# Altium schematic symbol library switch.SchLib: 4 symbols
Pins are listed as number, name and electrical type; pins without a type are passive.

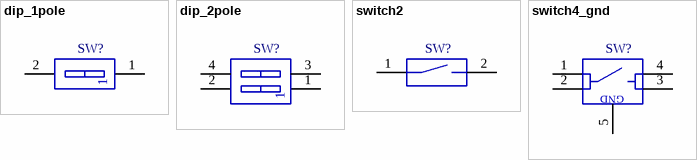
[diagram p0: symbols dip_1pole to switch4_gnd]

## dip_1pole
designator SW?
=Description
pins: 1 (power), 2 (power)

## dip_2pole
designator SW?
=Description
pins: 1 (power), 2 (power), 3 (power), 4 (power)

## switch2
designator SW?
=Description
pins: 1 (power), 2 (power)

## switch4_gnd
designator SW?
=Description
pins: 1 (power), 2 (power), 3 (power), 4 (power), 5 (power)
text: GND